# EAGLE library part VFD-DUO (library mynixies)
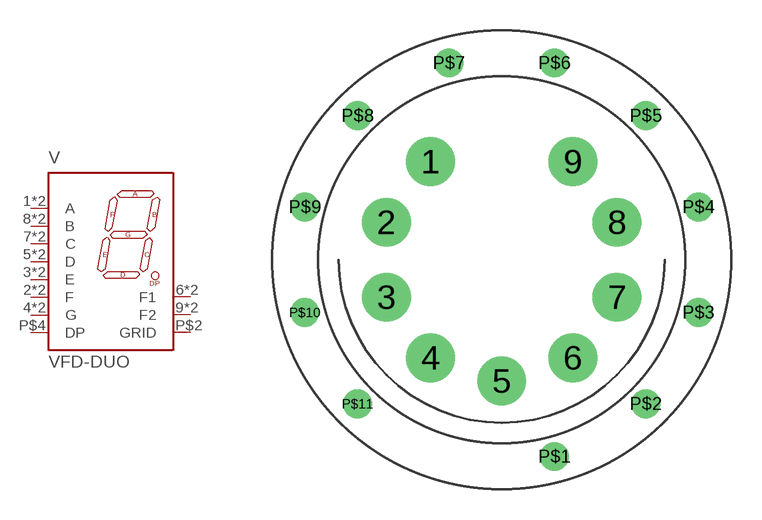
[diagram p32: symbol with the pads of VFD-DUO; footprint VFD-DUO]

Designator prefix V

## VFD-DUO  [VFD-DUO]
1  A  pas
2  F  pas
3  E  pas
4  G  pas
5  D  pas
6  F1  pas
7  C  pas
8  B  pas
9  F2  pas
P$1  F2  pas
P$2  GRID  pas
P$3  C  pas
P$4  DP  pas
P$5  B  pas
P$6  A  pas
P$7  G  pas
P$8  F  pas
P$9  E  pas
P$10  D  pas
P$11  F1  pas

## Footprint VFD-DUO (pad centres in mm)
drill 1.6: 1 -3.497,4.814; 2 -5.659,1.839; 3 -5.659,-1.839; 4 -3.497,-4.814; 5 0,-5.95; 6 3.497,-4.814; 7 5.659,-1.839; 8 5.659,1.839; 9 3.497,4.814
drill 0.9: P$1 2.588,-9.659; P$2 7.071,-7.071; P$3 9.659,-2.588; P$4 9.659,2.588; P$5 7.071,7.071; P$6 2.588,9.659; P$7 -2.588,9.659; P$8 -7.071,7.071; P$9 -9.659,2.588; P$10 -9.659,-2.588; P$11 -7.071,-7.071